# Altium footprint library NX2012SA-32P768K-STD-MUB-1.PcbLib: 1 footprints
Each footprint in its own frame and in the unit in brackets; x right, y up, seen from the top. Pads: shape width x height; smd on the part's side, far side on the other; paste and mask are expansions set on the pad; w line width, h text height; cw(c..) or ccw(c..) is an arc to the next point about the centre after c.
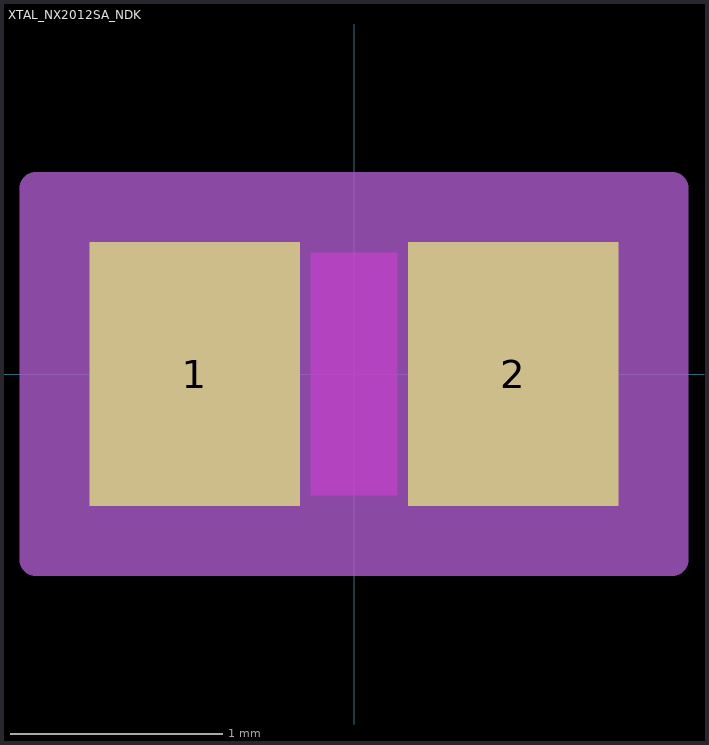
[diagram p0: the footprint, top view; thin cyan lines are the x and y axes]

## XTAL_NX2012SA_NDK [mil]
pads (2):
  rect 39x49 smd paste+0 mask+0: 1(-29.5,0) 2(29.5,0)
Top Layer keep-out:
  region: -8,-22.5 -8,22.5 8,22.5 8,-22.5
Mechanical 13:
  lines w1: -41.5,-24.5 41.5,-24.5 41.5,24.5 -41.5,24.5 -41.5,-24.5
Mechanical 15:
  region: -51.5,-34.5 -59,-34.5 -59,34.5 -51.5,34.5 51.5,34.5 59,34.5 59,-34.5 51.5,-34.5
  lines w6: -51.5,-34.5 -59,-34.5 -59,34.5 -51.5,34.5 ; -51.5,-34.5 -51.5,-34.5 ; -51.5,-34.5 51.5,-34.5 ; -51.5,34.5 -51.5,34.5 ; -51.5,34.5 51.5,34.5 ; 51.5,-34.5 59,-34.5 59,34.5 51.5,34.5 ; 51.5,-34.5 51.5,-34.5 ; 51.5,34.5 51.5,34.5
3D body "XTAL_NX2012SA_NDK.step": height 24.02, standoff 0, extent -41.5,-24.49 41.5,24.49